# Altium schematic symbol library MLG1005S4N3ST000.SchLib: 1 symbol
Pins are listed as number, name and electrical type; pins without a type are passive.

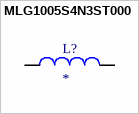
[diagram p0: symbol MLG1005S4N3ST000]

## MLG1005S4N3ST000
designator L?
MP: MLG1005S4N3ST000; MF: {'manufacturer': u'TDK'}; Package: None; Value: *; Availability: Unavailable; Price: None
footprint INDC1005X55N
pins: 1, 2